# Altium schematic symbol library LED_805.SchLib: 1 symbol
Pins are listed as number, name and electrical type; pins without a type are passive.

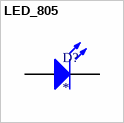
[diagram p0: symbol LED_805]

## LED_805
designator D?
footprint LED_805
pins: 1 A, 2 K